# EAGLE library part MSP430 (library msp430_board)
Custom MSP430
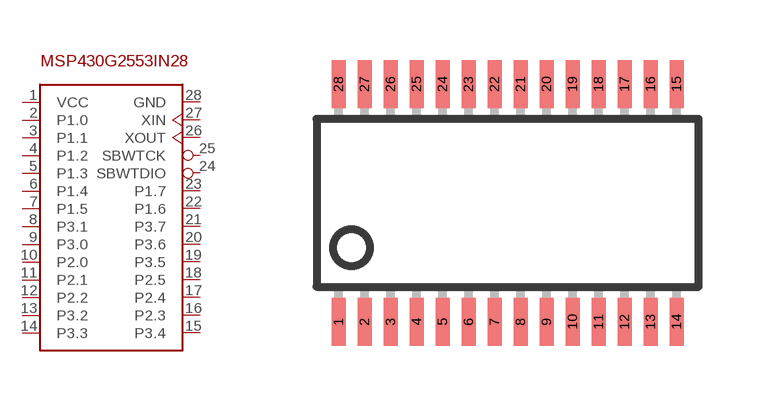
[diagram p0: symbol with the pads of P-TSSOP28-1; footprint P-TSSOP28-1]

Designator prefix IC

## MSP430  [P-TSSOP28-1]
1  VCC  pwr
2  P1.0
3  P1.1
4  P1.2
5  P1.3
6  P1.4
7  P1.5
8  P3.1
9  P3.0
10  P2.0
11  P2.1
12  P2.2
13  P3.2
14  P3.3
15  P3.4
16  P2.3
17  P2.4
18  P2.5
19  P3.5
20  P3.6
21  P3.7
22  P1.6
23  P1.7
24  SBWTDIO
25  SBWTCK
26  XOUT  out
27  XIN  in
28  GND  sup

## Footprint P-TSSOP28-1 (pad centres in mm)
Infineon P-TSSOP-28-1 TDA 6060 XS cross-ref_pFET-60v_p_chan.pdf
smd 0.35 x 1.2: 1 -4.225,-2.975; 2 -3.575,-2.975; 3 -2.925,-2.975; 4 -2.275,-2.975; 5 -1.625,-2.975; 6 -0.975,-2.975; 7 -0.325,-2.975; 8 0.325,-2.975; 9 0.975,-2.975; 10 1.625,-2.975; 11 2.275,-2.975; 12 2.925,-2.975; 13 3.575,-2.975; 14 4.225,-2.975; 15 4.225,2.975; 16 3.575,2.975; 17 2.925,2.975; 18 2.275,2.975; 19 1.625,2.975; 20 0.975,2.975; 21 0.325,2.975; 22 -0.325,2.975; 23 -0.975,2.975; 24 -1.625,2.975; 25 -2.275,2.975; 26 -2.925,2.975; 27 -3.575,2.975; 28 -4.225,2.975